# EAGLE library part DRV8323RS (library lib_ysk)
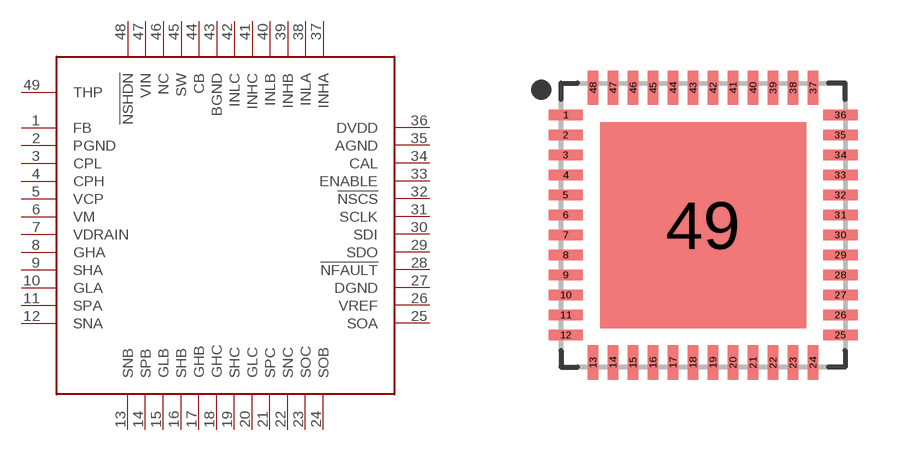
[diagram p5: symbol with the pads of QFN50P700X700X100-49T515N; footprint QFN50P700X700X100-49T515N]

Designator prefix -

## DRV8323RSRGZ  [QFN50P700X700X100-49T515N]
1  FB
2  PGND
3  CPL
4  CPH
5  VCP
6  VM
7  VDRAIN
8  GHA
9  SHA
10  GLA
11  SPA
12  SNA
13  SNB
14  SPB
15  GLB
16  SHB
17  GHB
18  GHC
19  SHC
20  GLC
21  SPC
22  SNC
23  SOC
24  SOB
25  SOA
26  VREF
27  DGND
28  !NFAULT
29  SDO
30  SDI
31  SCLK
32  !NSCS
33  ENABLE
34  CAL
35  AGND
36  DVDD
37  INHA
38  INLA
39  INHB
40  INLB
41  INHC
42  INLC
43  BGND
44  CB
45  SW
46  NC
47  VIN
48  !NSHDN
49  THP

## Footprint QFN50P700X700X100-49T515N (pad centres in mm)
48-QFN, 0.50 mm pitch, 7.00 X 7.00 X 1.00 mm body, 5.15 X 5.15 mm thermal pad 48-pin QFN package with 0.50 mm pitch with body size 7.00 X 7.00 X 1.00 mm and thermal pad size 5.15 X 5.15 mm
smd 0.86 x 0.264: 1 -3.435,2.75; 2 -3.435,2.25; 3 -3.435,1.75; 4 -3.435,1.25; 5 -3.435,0.75; 6 -3.435,0.25; 7 -3.435,-0.25; 8 -3.435,-0.75; 9 -3.435,-1.25; 10 -3.435,-1.75; 11 -3.435,-2.25; 12 -3.435,-2.75; 25 3.435,-2.75; 26 3.435,-2.25; 27 3.435,-1.75; 28 3.435,-1.25; 29 3.435,-0.75; 30 3.435,-0.25; 31 3.435,0.25; 32 3.435,0.75; 33 3.435,1.25; 34 3.435,1.75; 35 3.435,2.25; 36 3.435,2.75
smd 0.264 x 0.86: 13 -2.75,-3.435; 14 -2.25,-3.435; 15 -1.75,-3.435; 16 -1.25,-3.435; 17 -0.75,-3.435; 18 -0.25,-3.435; 19 0.25,-3.435; 20 0.75,-3.435; 21 1.25,-3.435; 22 1.75,-3.435; 23 2.25,-3.435; 24 2.75,-3.435; 37 2.75,3.435; 38 2.25,3.435; 39 1.75,3.435; 40 1.25,3.435; 41 0.75,3.435; 42 0.25,3.435; 43 -0.25,3.435; 44 -0.75,3.435; 45 -1.25,3.435; 46 -1.75,3.435; 47 -2.25,3.435; 48 -2.75,3.435
smd 5.15 x 5.15: 49 0,0